# Altium schematic symbol library axsem_connectors_v1-13.SCHLIB: 47 symbols
Pins are listed as number, name and electrical type; pins without a type are passive.

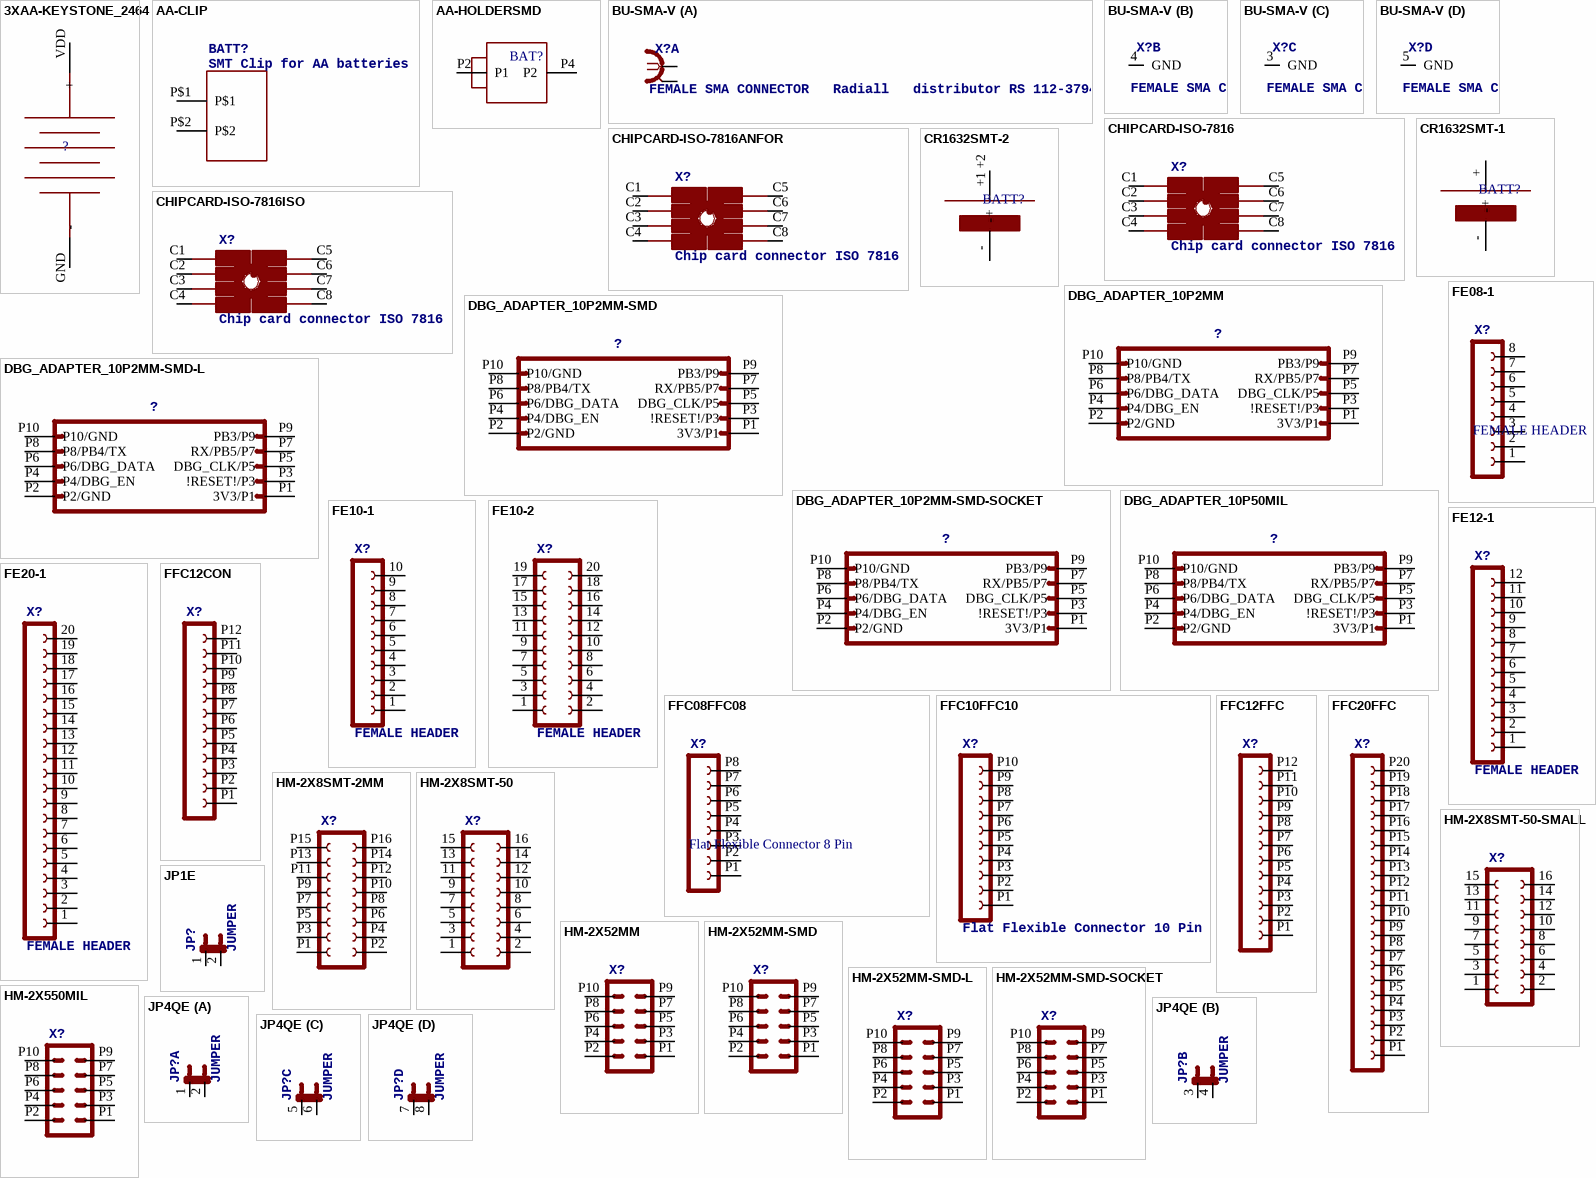
[diagram p0: symbols 3XAA-KEYSTONE_2464 to JP4QE]

## 3XAA-KEYSTONE_2464
designator ?
footprint 3XAA-HOLDER
pins: GND -, VDD +

## AA-CLIP
designator BATT?, comment SMT Clip for AA batteries
footprint AA-SMD
pins: P$1, P$2

## AA-HOLDERSMD
designator BAT?
footprint AA-HOLDER
pins: P2 P1 (power), P4 P2 (power)

## BU-SMA-V
designator X?, comment FEMALE SMA CONNECTOR   Radiall   distributor RS 112-3794
footprint BU-SMA-V
part A pins: 1, 2 GND (power)
part B pins: 4 GND (power)
part C pins: 3 GND (power)
part D pins: 5 GND (power)

## CHIPCARD-ISO-7816
designator X?, comment Chip card connector ISO 7816
footprint ISO7816
pins: C1 VCC, C2 RST, C3 CLK, C4 NC@4, C5 GND, C6 NC@6, C7 I/O, C8 NC@8

## CHIPCARD-ISO-7816ANFOR
designator X?, comment Chip card connector ISO 7816
footprint AFNOR-CHIPCARD
pins: C1 VCC, C2 RST, C3 CLK, C4 NC@4, C5 GND, C6 NC@6, C7 I/O, C8 NC@8

## CHIPCARD-ISO-7816ISO
designator X?, comment Chip card connector ISO 7816
footprint ISO-7816
pins: C1 VCC, C2 RST, C3 CLK, C4 NC@4, C5 GND, C6 NC@6, C7 I/O, C8 NC@8

## CR1632SMT-1
designator BATT?
footprint CR1632-1
pins: + (power), - (power)

## CR1632SMT-2
designator BATT?
footprint CR1632-2
pins: +1 +2 + (power), - (power)

## DBG_ADAPTER_10P2MM
designator ?
footprint HM-2MM-2X5
pins: P1 3V3/P1, P2 P2/GND, P3 !RESET!/P3, P4 P4/DBG_EN, P5 DBG_CLK/P5, P6 P6/DBG_DATA, P7 RX/PB5/P7, P8 P8/PB4/TX, P9 PB3/P9, P10 P10/GND

## DBG_ADAPTER_10P2MM-SMD
designator ?
footprint HM-2MM-2X5-SMD
pins: P1 3V3/P1, P2 P2/GND, P3 !RESET!/P3, P4 P4/DBG_EN, P5 DBG_CLK/P5, P6 P6/DBG_DATA, P7 RX/PB5/P7, P8 P8/PB4/TX, P9 PB3/P9, P10 P10/GND

## DBG_ADAPTER_10P2MM-SMD-L
designator ?
footprint HM-2MM-2X5-SMD-L
pins: P1 3V3/P1, P2 P2/GND, P3 !RESET!/P3, P4 P4/DBG_EN, P5 DBG_CLK/P5, P6 P6/DBG_DATA, P7 RX/PB5/P7, P8 P8/PB4/TX, P9 PB3/P9, P10 P10/GND

## DBG_ADAPTER_10P2MM-SMD-SOCKET
designator ?
footprint HM-2MM-2X5-SMD-SOCKET
pins: P1 3V3/P1, P2 P2/GND, P3 !RESET!/P3, P4 P4/DBG_EN, P5 DBG_CLK/P5, P6 P6/DBG_DATA, P7 RX/PB5/P7, P8 P8/PB4/TX, P9 PB3/P9, P10 P10/GND

## DBG_ADAPTER_10P50MIL
designator ?
footprint HM-50M-2X5
pins: P1 3V3/P1, P2 P2/GND, P3 !RESET!/P3, P4 P4/DBG_EN, P5 DBG_CLK/P5, P6 P6/DBG_DATA, P7 RX/PB5/P7, P8 P8/PB4/TX, P9 PB3/P9, P10 P10/GND

## FE08-1
designator X?, comment FEMALE HEADER
footprint FE08
pins: 1, 2, 3, 4, 5, 6, 7, 8

## FE10-1
designator X?, comment FEMALE HEADER
footprint FE10
pins: 1, 2, 3, 4, 5, 6, 7, 8, 9, 10

## FE10-2
designator X?, comment FEMALE HEADER
footprint FE10-2
pins: 1, 2, 3, 4, 5, 6, 7, 8, 9, 10, 11, 12, 13, 14, 15, 16, 17, 18, 19, 20

## FE12-1
designator X?, comment FEMALE HEADER
footprint FE12
pins: 1, 2, 3, 4, 5, 6, 7, 8, 9, 10, 11, 12

## FE20-1
designator X?, comment FEMALE HEADER
footprint FE20
pins: 1, 2, 3, 4, 5, 6, 7, 8, 9, 10, 11, 12, 13, 14, 15, 16, 17, 18, 19, 20

## FFC08FFC08
designator X?, comment Flat Flexible Connector 8 Pin
footprint FFC-08
pins: P1 1, P2 2, P3 3, P4 4, P5 5, P6 6, P7 7, P8 8

## FFC10FFC10
designator X?, comment Flat Flexible Connector 10 Pin
footprint FFC-10
pins: P1 1, P2 2, P3 3, P4 4, P5 5, P6 6, P7 7, P8 8, P9 9, P10 10

## FFC12CON
designator X?
footprint FFC-12-CONN
pins: P1 1, P2 2, P3 3, P4 4, P5 5, P6 6, P7 7, P8 8, P9 9, P10 10, P11 11, P12 12

## FFC12FFC
designator X?
footprint FFC-12
pins: P1 1, P2 2, P3 3, P4 4, P5 5, P6 6, P7 7, P8 8, P9 9, P10 10, P11 11, P12 12

## FFC20FFC
designator X?
footprint FFC-20
pins: P1 1, P2 2, P3 3, P4 4, P5 5, P6 6, P7 7, P8 8, P9 9, P10 10, P11 11, P12 12, P13 13, P14 14, P15 15, P16 16, P17 17, P18 18, P19 19, P20 20

## HM-2X8SMT-2MM
designator X?
footprint DF11CZ-16DP
pins: P1 1, P2 2, P3 3, P4 4, P5 5, P6 6, P7 7, P8 8, P9 9, P10 10, P11 11, P12 12, P13 13, P14 14, P15 15, P16 16

## HM-2X8SMT-50
designator X?
footprint CON-MINI-SMT-2X8
pins: 1, 2, 3, 4, 5, 6, 7, 8, 9, 10, 11, 12, 13, 14, 15, 16

## HM-2X8SMT-50-SMALL
designator X?
footprint CON-MINI-SMT-2X8-SMALL
pins: 1, 2, 3, 4, 5, 6, 7, 8, 9, 10, 11, 12, 13, 14, 15, 16

## HM-2X52MM
designator X?
footprint HM-2MM-2X5
pins: P1 1, P2 2, P3 3, P4 4, P5 5, P6 6, P7 7, P8 8, P9 9, P10 10

## HM-2X52MM-SMD
designator X?
footprint HM-2MM-2X5-SMD
pins: P1 1, P2 2, P3 3, P4 4, P5 5, P6 6, P7 7, P8 8, P9 9, P10 10

## HM-2X52MM-SMD-L
designator X?
footprint HM-2MM-2X5-SMD-L
pins: P1 1, P2 2, P3 3, P4 4, P5 5, P6 6, P7 7, P8 8, P9 9, P10 10

## HM-2X52MM-SMD-SOCKET
designator X?
footprint HM-2MM-2X5-SMD-SOCKET
pins: P1 1, P2 2, P3 3, P4 4, P5 5, P6 6, P7 7, P8 8, P9 9, P10 10

## HM-2X550MIL
designator X?
ORDER: 952-1389-ND
footprint HM-50M-2X5
pins: P1 1, P2 2, P3 3, P4 4, P5 5, P6 6, P7 7, P8 8, P9 9, P10 10

## JP1E
designator JP?, comment JUMPER
footprint JP1
pins: 1, 2

## JP4QE
designator JP?, comment JUMPER
footprint JP4Q
part A pins: 1, 2
part B pins: 3 1, 4 2
part C pins: 5 1, 6 2
part D pins: 7 1, 8 2

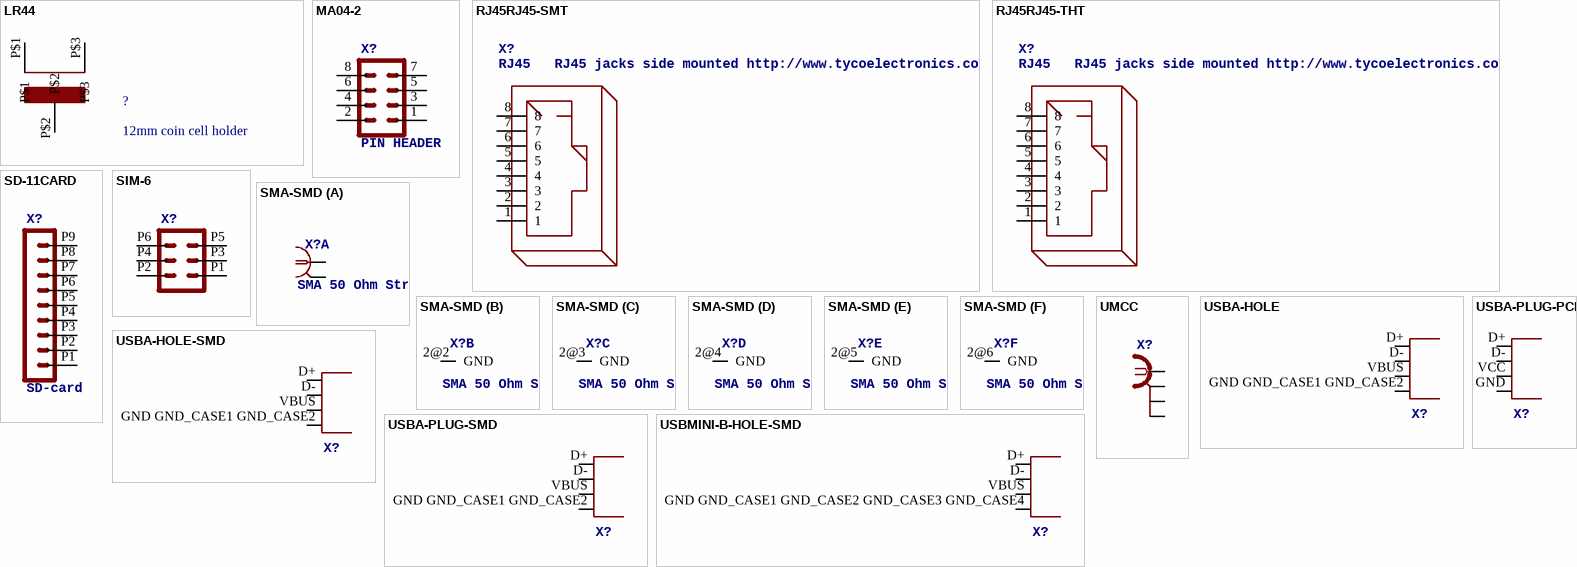
[diagram p1: symbols LR44 to USBMINI-B-HOLE-SMD]

## LR44
designator ?, comment 12mm coin cell holder
footprint LR44
pins: P$1 (power), P$2 (power), P$3 (power)

## MA04-2
designator X?, comment PIN HEADER
footprint MA04-2
pins: 1, 2, 3, 4, 5, 6, 7, 8

## RJ45RJ45-SMT
designator X?, comment RJ45   RJ45 jacks side mounted http://www.tycoelectronics.com
footprint RJ45-SMT
pins: 1, 2, 3, 4, 5, 6, 7, 8

## RJ45RJ45-THT
designator X?, comment RJ45   RJ45 jacks side mounted http://www.tycoelectronics.com
footprint RJ45
pins: 1, 2, 3, 4, 5, 6, 7, 8

## SD-11CARD
designator X?, comment SD-card
footprint SD-CARD-11
pins: P1 1, P2 2, P3 3, P4 4, P5 5, P6 6, P7 7, P8 8, P9 9

## SIM-6
designator X?
footprint SIM-6
pins: P1 1, P2 2, P3 3, P4 4, P5 5, P6 6

## SMA-SMD
designator X?, comment SMA 50 Ohm Straight Jack Receptacle - Surface Mount   www.johnsoncomponents.com Source:  http://catalog.digikey.com .. 142-0711-201, 205, 202, 206.pdf
footprint SMA-SMD
part A pins: 1, 2@1 GND (power)
part B pins: 2@2 GND (power)
part C pins: 2@3 GND (power)
part D pins: 2@4 GND (power)
part E pins: 2@5 GND (power)
part F pins: 2@6 GND (power)

## UMCC
designator X?
footprint UMCC
pins: 1, 2 GND (power), 3 GND1 (power), 4 GND2 (power)

## USBA-HOLE
designator X?
footprint USB-A-H
pins: D+, D-, GND GND_CASE1 GND_CASE2 GND, VBUS

## USBA-HOLE-SMD
designator X?
footprint USB-A-S
pins: D+, D-, GND GND_CASE1 GND_CASE2 GND, VBUS

## USBA-PLUG-PCB
designator X?
footprint USB-A-PCB
pins: D+, D-, GND, VCC VBUS

## USBA-PLUG-SMD
designator X?
footprint USB-A-PLUG-SMD
pins: D+, D-, GND GND_CASE1 GND_CASE2 GND, VBUS

## USBMINI-B-HOLE-SMD
designator X?
footprint USB-MB-S
pins: D+, D-, GND GND_CASE1 GND_CASE2 GND_CASE3 GND_CASE4 GND, VBUS